# EAGLE library part AT25PE80 (library LW_DUB)
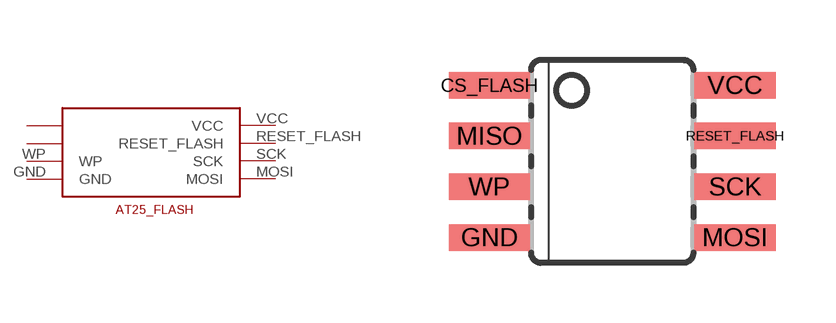
[diagram p15: symbol with the pads of AT25PE80; footprint AT25PE80]

Designator prefix -

## AT25PE80  [AT25PE80]
CS_FLASH  CS_FLASH
GND  GND
MISO  MISO
MOSI  MOSI
RESET_FLASH  RESET_FLASH
SCK  SCK
VCC  VCC
WP  WP

## Footprint AT25PE80 (pad centres in mm)
smd 2.032 x 0.66: CS_FLASH -3.073,1.905; GND -3.073,-1.905; MISO -3.073,0.635; MOSI 3.073,-1.905; RESET_FLASH 3.073,0.635; SCK 3.073,-0.635; VCC 3.073,1.905; WP -3.073,-0.635